# Altium footprint library SIP6_CABLE_TRAMPA.PcbLib: 1 footprints
Each footprint in its own frame and in the unit in brackets; x right, y up, seen from the top. Pads: shape width x height; smd on the part's side, far side on the other; paste and mask are expansions set on the pad; w line width, h text height; cw(c..) or ccw(c..) is an arc to the next point about the centre after c.
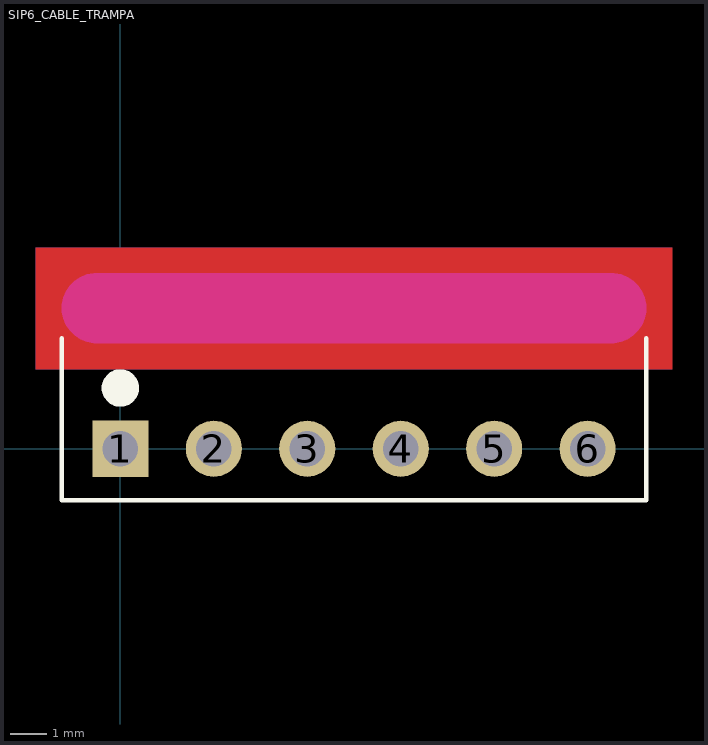
[diagram p0: the footprint, top view; thin cyan lines are the x and y axes]

## SIP6_CABLE_TRAMPA [mil]
pads (6):
  rect 60x60 hole 38: 1(0,0)
  round 60 hole 38: 2(100,0) 3(200,0) 4(300,0) 5(400,0) 6(500,0)
Top Layer:
  pour cut-out: -90.5,215 -90.5,85 590.5,85 590.5,215
Bottom Layer:
  pour cut-out: -90.5,215 -90.5,85 590,85 590,215
Top Overlay:
  circle w20: c0,65 r10
  lines w5: -62.82,118.11 -62.82,-55 562.82,-55 562.82,118.11
Keep-Out Layer:
  board cut-out: -25,188 -28.69,188 -35.94,186.56 -42.76,183.73 -48.9,179.63 -54.13,174.4 -58.23,168.26 -61.06,161.44 -62.5,154.19 -62.5,150.5 -62.5,146.81 -61.06,139.56 -58.23,132.74 -54.13,126.6 -48.9,121.37 -42.76,117.27 -35.94,114.44 -28.69,113 -25,113 525,113 528.69,113 535.94,114.44 542.76,117.27 548.91,121.37 554.13,126.6 558.23,132.74 561.06,139.56 562.5,146.81 562.5,150.5 562.5,154.19 561.06,161.44 558.23,168.26 554.13,174.41 548.91,179.63 542.76,183.73 535.94,186.56 528.69,188 525,188
Mechanical 4:
  lines w5: -25,113 cw(c-25,150.5) -25,188 525,188 cw(c525,150.5) 525,113 -25,113